# Altium footprint library clever_watch.PcbLib: 30 footprints (part 2 of 2)
Each footprint in its own frame and in the unit in brackets; x right, y up, seen from the top. Pads: shape width x height; smd on the part's side, far side on the other; paste and mask are expansions set on the pad; w line width, h text height; cw(c..) or ccw(c..) is an arc to the next point about the centre after c.
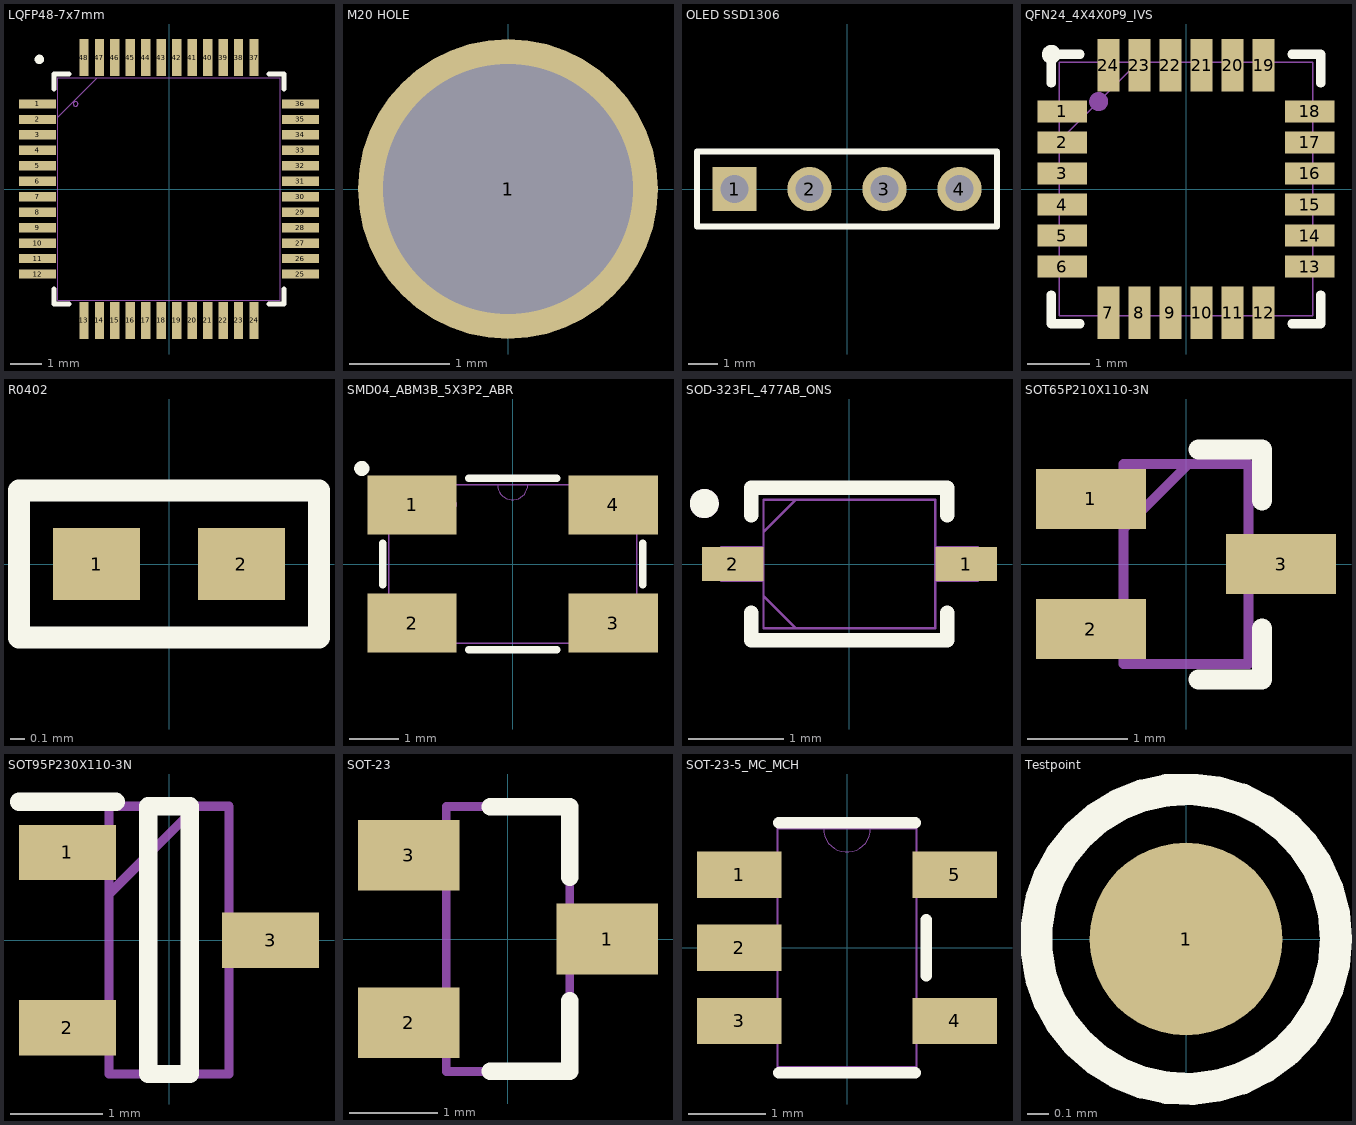
[diagram p1: the footprints below, top view; thin cyan lines are the x and y axes]

## LQFP48-7x7mm [mm]
pads (48):
  rect 1.2x0.3 smd paste+0 mask+0: 1(-4.25,2.75) 2(-4.25,2.25) 3(-4.25,1.75) 4(-4.25,1.25) 5(-4.25,0.75) 6(-4.25,0.25) 7(-4.25,-0.25) 8(-4.25,-0.75) 9(-4.25,-1.25) 10(-4.25,-1.75) 11(-4.25,-2.25) 12(-4.25,-2.75) 25(4.25,-2.75) 26(4.25,-2.25) 27(4.25,-1.75) 28(4.25,-1.25) 29(4.25,-0.75) 30(4.25,-0.25) 31(4.25,0.25) 32(4.25,0.75) 33(4.25,1.25) 34(4.25,1.75) 35(4.25,2.25) 36(4.25,2.75)
  rect 0.3x1.2 smd paste+0 mask+0: 13(-2.75,-4.25) 14(-2.25,-4.25) 15(-1.75,-4.25) 16(-1.25,-4.25) 17(-0.75,-4.25) 18(-0.25,-4.25) 19(0.25,-4.25) 20(0.75,-4.25) 21(1.25,-4.25) 22(1.75,-4.25) 23(2.25,-4.25) 24(2.75,-4.25) 37(2.75,4.25) 38(2.25,4.25) 39(1.75,4.25) 40(1.25,4.25) 41(0.75,4.25) 42(0.25,4.25) 43(-0.25,4.25) 44(-0.75,4.25) 45(-1.25,4.25) 46(-1.75,4.25) 47(-2.25,4.25) 48(-2.75,4.25)
Top Overlay:
  circle w0.152: c-4.191,4.191 r0.076
  lines w0.152: -3.721,-3.235 -3.721,-3.721 -3.235,-3.721 ; -3.721,3.235 -3.721,3.721 -3.235,3.721 ; 3.235,-3.721 3.721,-3.721 3.721,-3.235 ; 3.235,3.721 3.721,3.721 3.721,3.235
Mechanical 13:
  circle w0: c-3.018,2.75 r0.076
  lines w0.025: -3.594,2.324 -2.324,3.594 ; -3.594,-3.594 3.594,-3.594 3.594,3.594 -3.594,3.594 -3.594,-3.594
3D body "LQFP48-7x7mm.step": height 1.6, standoff 0, extent -4.497,-4.497 4.497,4.497

## M20 HOLE [mm]
pads (1):
  round 3 hole 2.5: 1(0,0)

## OLED SSD1306 [mm]
pads (4):
  rect 1.5x1.5 hole 0.95: 1(-3.81,0)
  round 1.5 hole 0.95: 2(-1.27,0) 3(1.27,0) 4(3.81,0)
Top Overlay:
  lines w0.2: -5.08,-1.27 5.08,-1.27 5.08,1.27 -5.08,1.27 -5.08,-1.27
3D body "DS1021-1x4SF11.stp": height 5.54, standoff -6.06, extent -5.08,-1.27 5.08,1.27
3D body "OLED-128x64-0.96.step": height 5.28, standoff -5.56, extent -13.335,-25.574 13.365,2.286

## PCBComponent_1 [mm]

## PCBComponent_1 - duplicate [mm]

## QFN24_4X4X0P9_IVS [mm]
pads (24):
  rect 0.8x0.35 smd paste+0 mask+0: 1(-1.994,1.25) 2(-1.994,0.75) 3(-1.994,0.25) 4(-1.994,-0.25) 5(-1.994,-0.75) 6(-1.994,-1.25) 13(1.994,-1.25) 14(1.994,-0.75) 15(1.994,-0.25) 16(1.994,0.25) 17(1.994,0.75) 18(1.994,1.25)
  rect 0.35x0.85 smd paste+0 mask+0: 7(-1.25,-1.994) 8(-0.75,-1.994) 9(-0.25,-1.994) 10(0.25,-1.994) 11(0.75,-1.994) 12(1.25,-1.994) 19(1.25,1.994) 20(0.75,1.994) 21(0.25,1.994) 22(-0.25,1.994) 23(-0.75,1.994) 24(-1.25,1.994)
Top Overlay:
  circle w0.152: c-2.172,2.172 r0.076
  lines w0.152: -2.172,-1.71 -2.172,-2.172 -1.71,-2.172 ; -2.172,1.71 -2.172,2.172 -1.71,2.172 ; 1.71,-2.172 2.172,-2.172 2.172,-1.71 ; 1.71,2.172 2.172,2.172 2.172,1.71
Mechanical 13:
  circle w0.152: c-1.41,1.41 r0.076
  lines w0.025: -2.045,0.775 -0.775,2.045 ; -2.045,-2.045 -2.045,2.045 2.045,2.045 2.045,-2.045 -2.045,-2.045 ; -2.045,-1.402 -2.045,-1.098 -2.045,-1.402 ; -2.045,-0.902 -2.045,-0.598 -2.045,-0.902 ; -2.045,-0.402 -2.045,-0.098 -2.045,-0.402 ; -2.045,0.098 -2.045,0.402 -2.045,0.098 ; -2.045,0.598 -2.045,0.902 -2.045,0.598 ; -2.045,1.098 -2.045,1.402 -2.045,1.098 ; -1.402,-2.045 -1.098,-2.045 -1.402,-2.045 ; -1.402,2.045 -1.098,2.045 -1.402,2.045 ; -0.902,-2.045 -0.598,-2.045 -0.902,-2.045 ; -0.902,2.045 -0.598,2.045 -0.902,2.045 ; -0.402,-2.045 -0.098,-2.045 -0.402,-2.045 ; -0.402,2.045 -0.098,2.045 -0.402,2.045 ; 0.098,-2.045 0.402,-2.045 0.098,-2.045 ; 0.098,2.045 0.402,2.045 0.098,2.045 ; 0.598,-2.045 0.902,-2.045 0.598,-2.045 ; 0.598,2.045 0.902,2.045 0.598,2.045 ; 1.098,-2.045 1.402,-2.045 1.098,-2.045 ; 1.098,2.045 1.402,2.045 1.098,2.045 ; 2.045,-1.402 2.045,-1.098 2.045,-1.402 ; 2.045,-0.902 2.045,-0.598 2.045,-0.902 ; 2.045,-0.402 2.045,-0.098 2.045,-0.402 ; 2.045,0.098 2.045,0.402 2.045,0.098 ; 2.045,0.598 2.045,0.902 2.045,0.598 ; 2.045,1.098 2.045,1.402 2.045,1.098
3D body "QFN24_4X4X0P9_IVS.step": height 0.94, standoff 0, extent -2.045,-2.045 2.045,2.045

## R0402 [mm]
pads (2):
  rect 0.6x0.5 smd: 1(-0.5,0) 2(0.5,0)
Top Overlay:
  lines w0.152: -1.035,-0.508 -1.035,0.508 ; -1.016,-0.508 1.016,-0.508 ; -1.016,0.508 1.016,0.508 ; 1.035,-0.508 1.035,0.508
3D body "RC0402N_YAG.step": height 0.71, standoff 0, extent -0.533,-0.254 0.533,0.254

## SMD04_ABM3B_5X3P2_ABR [mil]
pads (4):
  rect 71x47 smd paste+0 mask+0: 1(-80,47) 2(-80,-47) 3(80,-47) 4(80,47)
Top Overlay:
  circle w6: c-120,76 r3
  lines w6: -103.5,-16.64 -103.5,16.64 ; -34.81,-68 34.81,-68 ; -34.81,68 34.81,68 ; 103.5,-16.64 103.5,16.64
Mechanical 13:
  circle w0: c-47.5,47.24 r3
  lines w0: -12,63 ccw(c0,63) 12,63
  lines w1: -98.5,-63 -98.5,63 98.5,63 98.5,-63 -98.5,-63
3D body "ABM3B-8.000MHZ-B2-T.stp": height 43.31, standoff 0, extent -98.43,-62.99 98.43,62.99

## SOD-323FL_477AB_ONS [mil]
pads (2):
  rect 25.5x14 smd paste+0 mask+0: 1(48.25,0) 2(-48.25,0)
Top Overlay:
  circle w6: c-60,25 r3
  lines w6: -40.5,-20.1 -40.5,-31.5 40.5,-31.5 40.5,-20.1 ; -40.5,20.1 -40.5,31.5 40.5,31.5 40.5,20.1
Mechanical 13:
  circle w6: c-60,25 r3
  lines w1: -35.5,-13.25 -22.25,-26.5 ; -35.5,13.25 -22.25,26.5 ; -53,-7 -53,7 -35.5,7 -35.5,-7 -53,-7 ; -35.5,-26.5 35.5,-26.5 35.5,26.5 -35.5,26.5 -35.5,-26.5 ; 35.5,-7 35.5,7 53,7 53,-7 35.5,-7
3D body "SOD-323FL_477AB_ONS.step": height 35.24, standoff 0, extent -52.99,-26.5 52.99,26.5

## SOT65P210X110-3N [mm]
pads (3):
  rect 1.1x0.6 smd: 1(-0.95,0.65) 2(-0.95,-0.65) 3(0.95,0)
Top Overlay:
  lines w0.2: 0.127,-1.153 0.762,-1.153 0.762,-0.645 ; 0.127,1.143 0.762,1.143 0.762,0.635
Mechanical 13:
  lines w0.1: -0.625,0.35 0.025,1 ; -0.625,-1 0.625,-1 0.625,1 -0.625,1 -0.625,-1
3D body "1PS302,115.stp": height 0.95, standoff 0, extent -1.052,-1.049 1.048,1.051

## SOT95P230X110-3N [mm]
pads (3):
  rect 1.05x0.6 smd: 1(-1.1,0.95) 2(-1.1,-0.95) 3(1.1,0)
Top Overlay:
  lines w0.2: -1.625,1.5 -0.575,1.5 ; -0.225,-1.45 0.225,-1.45 0.225,1.45 -0.225,1.45 -0.225,-1.45
Mechanical 13:
  lines w0.1: -0.65,0.5 0.3,1.45 ; -0.65,-1.45 0.65,-1.45 0.65,1.45 -0.65,1.45 -0.65,-1.45
3D body "BC847,185.stp": height 1.1, standoff 0, extent -1.15,-1.45 1.15,1.45

## SOT-23 [mm] "SOT-23"
height 0.025
pads (3):
  rect 1.15x0.8 smd: 1(1.125,0) 2(-1.125,-0.95) 3(-1.125,0.95)
Top Overlay:
  lines w0.2: -0.2,-1.5 0.7,-1.5 0.7,-0.7 ; -0.2,1.5 0.7,1.5 0.7,0.7
Mechanical 13:
  lines w0.1: -0.7,-1.5 0.7,-1.5 0.7,1.5 -0.7,1.5 -0.7,-1.5
3D body "SW3DPS-SOT-23-DEFAULT.STEP": height 1.05, standoff -0.05, extent -1.25,-1.5 1.25,1.5

## SOT-23-5_MC_MCH [mm]
pads (5):
  rect 1.1x0.6 smd paste+0 mask+0: 1(-1.4,0.95) 2(-1.4,0) 3(-1.4,-0.95) 4(1.4,-0.95) 5(1.4,0.95)
Top Overlay:
  lines w0.152: -0.889,-1.626 0.889,-1.626 ; -0.889,1.626 0.889,1.626 ; 1.029,-0.363 1.029,0.363
Mechanical 13:
  lines w0: -0.305,1.549 ccw(c0,1.549) 0.305,1.549
  lines w0.025: -1.6,-1.204 -0.902,-1.204 -0.902,-0.696 -1.6,-0.696 -1.6,-1.204 ; -1.6,-0.254 -0.902,-0.254 -0.902,0.254 -1.6,0.254 -1.6,-0.254 ; -1.6,0.696 -0.902,0.696 -0.902,1.204 -1.6,1.204 -1.6,0.696 ; -0.902,-1.549 -0.902,1.549 0.902,1.549 0.902,-1.549 -0.902,-1.549 ; 0.902,-1.204 1.6,-1.204 1.6,-0.696 0.902,-0.696 0.902,-1.204 ; 0.902,0.696 1.6,0.696 1.6,1.204 0.902,1.204 0.902,0.696
3D body "SOT-23-5_MC_MCH.step": height 1.45, standoff 0, extent -1.6,-1.549 1.6,1.549

## Testpoint [mm]
pads (1):
  round 0.9 smd: 1(0,0)
Top Overlay:
  circle w0.15: c0,0 r0.7